# EAGLE library part GRF1-J-P-02 (library con-coax)
DUAL RF CONNECTOR
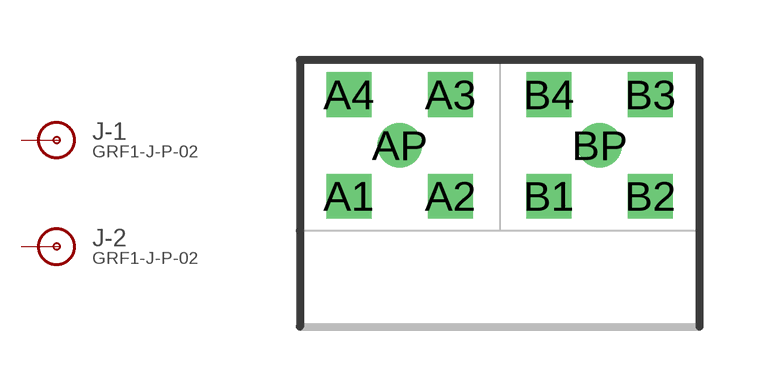
[diagram p0: symbol with the pads of GRF1-J-P-02; footprint GRF1-J-P-02]

Designator prefix J; gates -1=SMA-G4 -2=SMA-G4

## GRF1-J-P-02  [GRF1-J-P-02]
A1  -1:G1  pas
A2  -1:G2  pas
A3  -1:G3  pas
A4  -1:G4  pas
AP  -1:P  pas
B1  -2:G1  pas
B2  -2:G2  pas
B3  -2:G3  pas
B4  -2:G4  pas
BP  -2:P  pas

## Footprint GRF1-J-P-02 (pad centres in mm)
GANGED RF RA JACK CONNECTOR Samtec
drill 0.61 square: A1 -3.77,-1.27; A2 -1.23,-1.27; A3 -1.23,1.27; A4 -3.77,1.27; B1 1.23,-1.27; B2 3.77,-1.27; B3 3.77,1.27; B4 1.23,1.27
drill 0.61: AP -2.5,0; BP 2.5,0